# Altium integrated library Components - 28.04.26 - 17.34.IntLib: 1 symbol
Pins are listed as number, name and electrical type; pins without a type are passive.

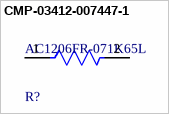
[diagram p0: symbol CMP-03412-007447-1]

## CMP-03412-007447-1
designator R?, comment AC1206FR-071K65L
RES SMD 1.65K OHM 1% 1/4W 1206; Manufacturer: Yageo; Automotive Grade: Grade 0; Power Rating: 0.25W; Resistance: 1.65KΩ; Value: 1.65KΩ; Voltage Rating: 200V; Tolerance: 0.01; Package: AC1206; Automotive: Yes; Temperature: -55°C to +155°C; ComponentLink2Description: Datasheet; Manufacturer Part Number: AC1206FR-071K65L; Height: 0.65mm; Mouser Description: Thick Film Resistors - SMD 1/4W 1.65K ohm 1% AEC-Q200; Device Class L3: Chip SMD Resistors; Digikey Description: RES SMD 1.65K OHM 1% 1/4W 1206; Composition: Thick Film; Category: Res; Lead Free: Yes; Footprint Url: http://www.yageo.com/exep/pages/download/literatures/PYu-R_Mount_10.pdf; Device Class L2: Resistors; Temperature Range High: +155°C; RoHS: TRUE; Octopart: https://octopart.com/ac1206fr-071k65l-yageo-30511068; Ipc Land Pattern Name: RESC310160X55; ComponentLink2URL: http://www.yageo.com/NewPortal/yageodocoutput?fileName=/pdf/R-Chip/PYu-AC_51_RoHS_L_6.pdf; Temperature Range Low: -55°C; Device Class L1: Passive Components; Series: AC
footprint FP-AC1206-IPC_B
footprint FP-AC1206-IPC_C
footprint FP-AC1206-IPC_A
footprint FP-AC1206-MFG
pins: 1, 2